# Altium integrated library GAN3R2-100CBE.IntLib: 1 symbol
Pins are listed as number, name and electrical type; pins without a type are passive.

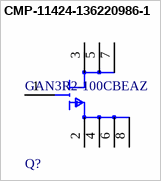
[diagram p0: symbol CMP-11424-136220986-1]

## CMP-11424-136220986-1
designator Q?, comment GAN3R2-100CBEAZ
GAN3R2-100CBEAZ 100 V, 3.2 mOhm Gallium Nitride (GaN) FET in a 3.5 mm x 2.13 mm Wafer Level Chip; NexarPartId: 136220986; Drain to Source Resistance: 2.4mΩ; Power Dissipation: 394W; Number of Channels: 1; Drain to Source Voltage (Vdss): 100V; Gate to Source Voltage (Vgs): -4V; Max Junction Temperature (Tj): 150°C; Continuous Drain Current (ID): 60A; Height: 464µm; Max Operating Temperature: 150°C; Min Operating Temperature: -40°C; Drain to Source Breakdown Voltage: 100V
footprint FP-WLCSP8-SOT8072-MFG
pins: 1 G, 2 S, 3 D, 4 S, 5 D, 6 S, 7 D, 8 S